# Altium schematic symbol library Rising Clamp System WR-TBL_2.54 mm.SchLib: 6 symbols
Pins are listed as number, name and electrical type; pins without a type are passive.

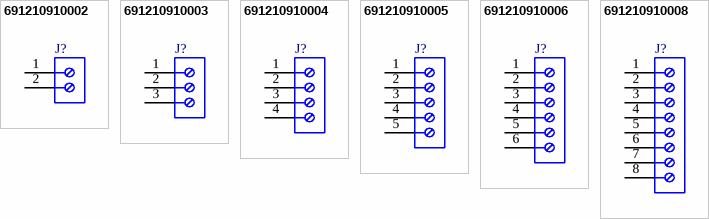
[diagram p0: symbols 691210910002 to 691210910008]

## 691210910002
designator J?
Serie 2109 - 2.54 mm Horizontal Entry with Rising Cage Clamp WR-TBL, 2 pin; Part Number: 691210910002; Pin Number: 2; Pitch: 2.54 mm; ComponentLink1Description: Manufacturer; ComponentLink1URL: http://www.we-online.de; ComponentLink2Description: Datasheet; ComponentLink2URL: http://katalog.we-online.de/em/datasheet/6912109100xx.pdf; Published Date: June 2018; Publisher: Wurth Elektronik; Operating Temperature: -40 to 105 degC; Mounting Technology: THT; Packaging: Box
footprint 691210910002
pins: 1, 2

## 691210910003
designator J?
Serie 2109 - 2.54 mm Horizontal Entry with Rising Cage Clamp WR-TBL, 3 pin; Part Number: 691210910003; Pin Number: 3; Pitch: 2.54 mm; ComponentLink1Description: Manufacturer; ComponentLink1URL: http://www.we-online.de; ComponentLink2Description: Datasheet; ComponentLink2URL: http://katalog.we-online.de/em/datasheet/6912109100xx.pdf; Published Date: June 2018; Publisher: Wurth Elektronik; Operating Temperature: -40 to 105 degC; Mounting Technology: THT; Packaging: Box
footprint 691210910003
pins: 1, 2, 3

## 691210910004
designator J?
Serie 2109 - 2.54 mm Horizontal Entry with Rising Cage Clamp WR-TBL, 4 pin; Part Number: 691210910004; Pin Number: 4; Pitch: 2.54 mm; ComponentLink1Description: Manufacturer; ComponentLink1URL: http://www.we-online.de; ComponentLink2Description: Datasheet; ComponentLink2URL: http://katalog.we-online.de/em/datasheet/6912109100xx.pdf; Published Date: June 2018; Publisher: Wurth Elektronik; Operating Temperature: -40 to 105 degC; Mounting Technology: THT; Packaging: Box
footprint 691210910004
pins: 1, 2, 3, 4

## 691210910005
designator J?
Serie 2109 - 2.54 mm Horizontal Entry with Rising Cage Clamp WR-TBL, 5 pin; Part Number: 691210910005; Pin Number: 5; Pitch: 2.54 mm; ComponentLink1Description: Manufacturer; ComponentLink1URL: http://www.we-online.de; ComponentLink2Description: Datasheet; ComponentLink2URL: http://katalog.we-online.de/em/datasheet/6912109100xx.pdf; Published Date: June 2018; Publisher: Wurth Elektronik; Operating Temperature: -40 to 105 degC; Mounting Technology: THT; Packaging: Box
footprint 691210910005
pins: 1, 2, 3, 4, 5

## 691210910006
designator J?
Serie 2109 - 2.54 mm Horizontal Entry with Rising Cage Clamp WR-TBL, 6 pin; Part Number: 691210910006; Pin Number: 6; Pitch: 2.54 mm; ComponentLink1Description: Manufacturer; ComponentLink1URL: http://www.we-online.de; ComponentLink2Description: Datasheet; ComponentLink2URL: http://katalog.we-online.de/em/datasheet/6912109100xx.pdf; Published Date: June 2018; Publisher: Wurth Elektronik; Operating Temperature: -40 to 105 degC; Mounting Technology: THT; Packaging: Box
footprint 691210910006
pins: 1, 2, 3, 4, 5, 6

## 691210910008
designator J?
Serie 2109 - 2.54 mm Horizontal Entry with Rising Cage Clamp WR-TBL, 8 pin; Part Number: 691210910008; Pin Number: 8; Pitch: 2.54 mm; ComponentLink1Description: Manufacturer; ComponentLink1URL: http://www.we-online.de; ComponentLink2Description: Datasheet; ComponentLink2URL: http://katalog.we-online.de/em/datasheet/6912109100xx.pdf; Published Date: June 2018; Publisher: Wurth Elektronik; Operating Temperature: -40 to 105 degC; Mounting Technology: THT; Packaging: Box
footprint 691210910008
pins: 1, 2, 3, 4, 5, 6, 7, 8